# Altium schematic symbol library SRP1770C-3R3M.SchLib: 2 symbols
Pins are listed as number, name and electrical type; pins without a type are passive.

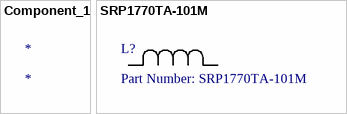
[diagram p0: symbols Component_1 to SRP1770TA-101M]

## Component_1
designator *

## SRP1770TA-101M
designator L?, comment Part Number: SRP1770TA-101M
No Description Available; Vendor: Bourns Electronics; Built_By: EMA_Matt; Type: DEV; Manufacturer_Part_Number: SRP1770TA-101M; Copyright: Copyright (C) 2018 Accelerated Designs. All rights reserved; RefDes: RefDes; Value: Value
footprint IND_TA-101M
pins: 1, 2